# Altium footprint library connector.PcbLib: 28 footprints (part 1 of 2)
Each footprint in its own frame and in the unit in brackets; x right, y up, seen from the top. Pads: shape width x height; smd on the part's side, far side on the other; paste and mask are expansions set on the pad; w line width, h text height; cw(c..) or ccw(c..) is an arc to the next point about the centre after c.
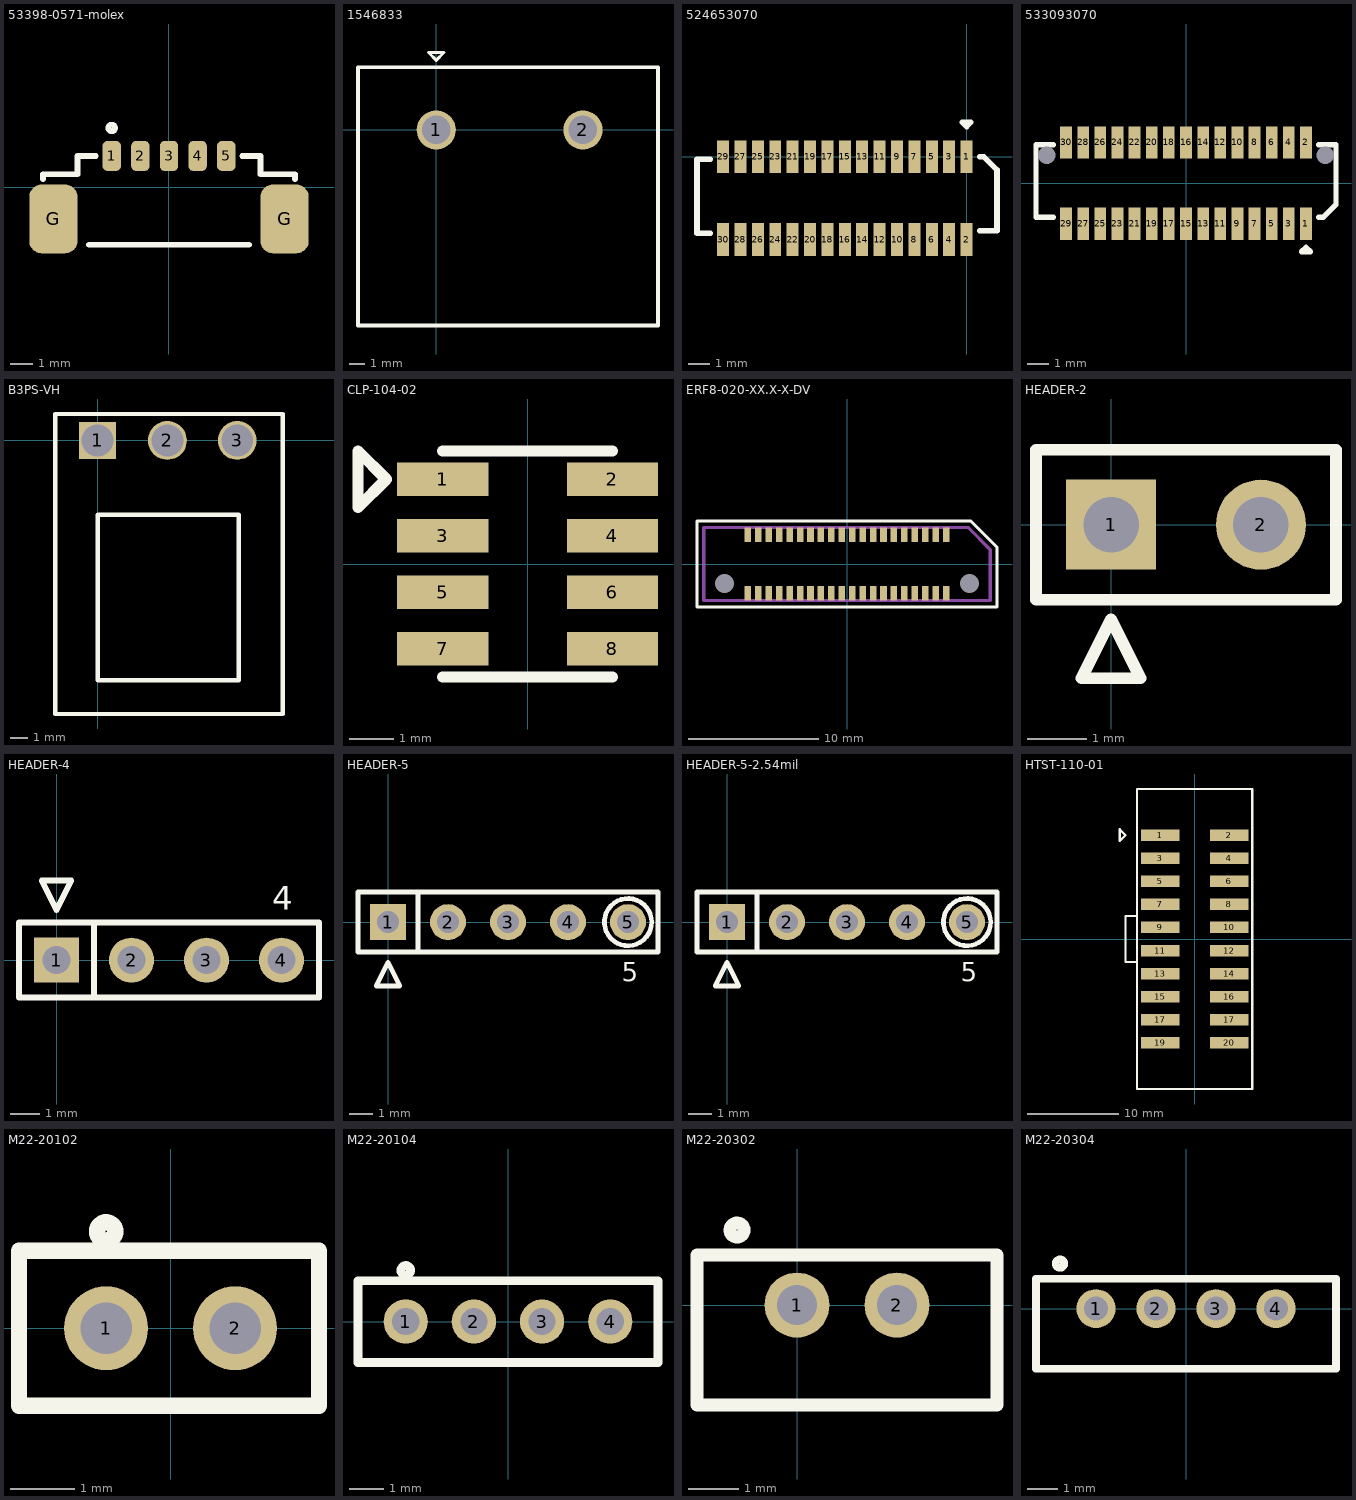
[diagram p0: the footprints below, top view; thin cyan lines are the x and y axes]

## 53398-0571-molex [mm] "1.27mmPitch molex"
pads (7):
  rrect50% 0.8x1.3 smd: 1(-2.5,1.375) 2(-1.25,1.375) 3(0,1.375) 4(1.25,1.375) 5(2.5,1.375)
  rrect50% 2.1x3 smd: G(-5.05,-1.375) G(5.05,-1.375)
Top Overlay:
  circle w0.254: c-2.5,2.6 r0.141
  lines w0.254: -5.5,0.375 -5.5,0.575 -4,0.575 -4,1.375 -3.2,1.375 ; -3.5,-2.5 3.5,-2.5 ; 3.2,1.375 4,1.375 4,0.575 5.5,0.575 5.5,0.375
3D body "533980571.stp": height 4.72, standoff -0.02, extent -5.7,-2.5 5.7,1.7

## 1546833 [mil] "1546833 moldex 2pin Terminal Block"
pads (2):
  round 100 hole 73: 1(0,0) 2(375,0)
Top Overlay:
  lines w7.87: -19.69,197.64 0,177.95 19.68,197.64 -19.69,197.64
  lines w10: -200,-500 -200,160 566.93,160 566.93,-500 -200,-500
3D body "c-1546833-2-d-3d.stp": height 685.04, standoff -192.91, extent -229.29,-489.61 559.29,160

## 524653070 [mm] "30pin Molex"
pads (30):
  rect 0.55x1.5 smd: 1(0,0) 2(0,-3.8) 3(-0.8,0) 4(-0.8,-3.8) 5(-1.6,0) 6(-1.6,-3.8) 7(-2.4,0) 8(-2.4,-3.8) 9(-3.2,0) 10(-3.2,-3.8) 11(-4,0) 12(-4,-3.8) 13(-4.8,0) 14(-4.8,-3.8) 15(-5.6,0) 16(-5.6,-3.8) 17(-6.4,0) 18(-6.4,-3.8) 19(-7.2,0) 20(-7.2,-3.8) 21(-8,0) 22(-8,-3.8) 23(-8.8,0) 24(-8.8,-3.8) 25(-9.6,0) 26(-9.6,-3.8) 27(-10.4,0) 28(-10.4,-3.8) 29(-11.2,0) 30(-11.2,-3.8)
Top Overlay:
  lines w0.254: -11.8,-3.5 -12.4,-3.5 -12.4,-0.1 -11.8,-0.1 ; 0.6,-3.4 1.4,-3.4 1.4,-0.6 0.8,0 0.6,0 ; -0.2,1.6 0,1.4 0.2,1.6 -0.2,1.6
3D body "533093070.stp": height 4.69, standoff 0, extent -12.5,-4.5 1.3,0.6

## 533093070 [mm] "30pin Molex"
pads (32):
  rect 0.55x1.5 smd: 1(5.6,-1.9) 2(5.6,1.9) 3(4.8,-1.9) 4(4.8,1.9) 5(4,-1.9) 6(4,1.9) 7(3.2,-1.9) 8(3.2,1.9) 9(2.4,-1.9) 10(2.4,1.9) 11(1.6,-1.9) 12(1.6,1.9) 13(0.8,-1.9) 14(0.8,1.9) 15(0,-1.9) 16(0,1.9) 17(-0.8,-1.9) 18(-0.8,1.9) 19(-1.6,-1.9) 20(-1.6,1.9) 21(-2.4,-1.9) 22(-2.4,1.9) 23(-3.2,-1.9) 24(-3.2,1.9) 25(-4,-1.9) 26(-4,1.9) 27(-4.8,-1.9) 28(-4.8,1.9) 29(-5.6,-1.9) 30(-5.6,1.9)
  round 0 hole 0.8: H(-6.5,1.3) H(6.5,1.3)
Top Overlay:
  lines w0.254: -6.2,-1.6 -7,-1.6 -7,1.8 -6.2,1.8 ; 6.2,-1.6 6.4,-1.6 7,-1 7,1.8 6.2,1.8 ; 5.6,-3 5.8,-3.2 5.4,-3.2 5.6,-3 ; 5.6,-3 5.6,-3
3D body "524653070.stp": height 3.53, standoff -0.53, extent -6.8,-2.1 6.8,2.1

## B3PS-VH [mm]
pads (3):
  rect 2.1x2.1 hole 1.8: 1(0,0)
  round 2.2 hole 1.8: 2(3.96,0) 3(7.92,0)
Top Overlay:
  lines w0.254: -2.4,-15.5 -2.4,-14.6 -2.4,1.5 10.5,1.5 10.5,-14.6 10.5,-15.5 0,-15.5 -2.4,-15.5 ; 0,-13.6 0,-4.2 8,-4.2 8,-13.6 6.8,-13.6 0,-13.6
3D body "B3PS-VH.STEP": height 8.5, standoff -3.6, extent -1.91,-14.97 9.91,0.5

## CLP-104-02 [mm] "1.27mm*1.27mm 8pin"
height 2.3
pads (8):
  rect 2.05x0.76 smd: 1(-1.905,1.905) 2(1.905,1.905) 3(-1.905,0.635) 4(1.905,0.635) 5(-1.905,-0.635) 6(1.905,-0.635) 7(-1.905,-1.905) 8(1.905,-1.905)
Top Overlay:
  lines w0.254: -1.905,-2.54 1.905,-2.54 ; -1.905,2.54 1.905,2.54 ; -3.81,1.27 -3.175,1.905 -3.81,2.54 -3.81,1.27
3D body "CLP_104_02_F_D_BE_TR.stp": height 2.26, standoff -0.03, extent -2.159,-2.756 2.159,2.756

## ERF8-020-XX.X-X-DV [mm]
pads (42):
  rect 0.5x1.1 smd mask+0.05: 1(7.6,2.25) 2(7.6,-2.25) 3(6.8,2.25) 4(6.8,-2.25) 5(6,2.25) 6(6,-2.25) 7(5.2,2.25) 8(5.2,-2.25) 9(4.4,2.25) 10(4.4,-2.25) 11(3.6,2.25) 12(3.6,-2.25) 13(2.8,2.25) 14(2.8,-2.25) 15(2,2.25) 16(2,-2.25) 17(1.2,2.25) 18(1.2,-2.25) 19(0.4,2.25) 20(0.4,-2.25) 21(-0.4,2.25) 22(-0.4,-2.25) 23(-1.2,2.25) 24(-1.2,-2.25) 25(-2,2.25) 26(-2,-2.25) 27(-2.8,2.25) 28(-2.8,-2.25) 29(-3.6,2.25) 30(-3.6,-2.25) 31(-4.4,2.25) 32(-4.4,-2.25) 33(-5.2,2.25) 34(-5.2,-2.25) 35(-6,2.25) 36(-6,-2.25) 37(-6.8,2.25) 38(-6.8,-2.25) 39(-7.6,2.25) 40(-7.6,-2.25)
  round 0 hole 1.45 unplated: MH1(9.4,-1.5) MH2(-9.4,-1.5)
Top Overlay:
  lines w0.25: -11.508,-3.3 -11.508,3.3 9.5,3.3 11.508,1.3 11.508,-3.3 -11.508,-3.3
Mechanical 1:
  lines w0.25: -11,-2.8 -11,2.8 9.3,2.8 11,1.1 11,-2.8 -11,-2.8
  text "J1" at -0.491,-0.502 h0.75
3D body "ERF8_020_05_0_L_DV_TR.stp": height 5.1, standoff -1.28, extent -11,-2.8 11,2.8

## HEADER-2 [mil]
pads (2):
  rect 60x60 hole 37: 1(0,0)
  round 60 hole 37: 2(100,0)
Top Overlay:
  lines w7.87: -50,-50 -50,50 150,50 150,-50 -50,-50 ; -19.69,-102.36 19.68,-102.36 0,-62.99 -19.69,-102.36
3D body "HDR1x2.STEP": height 330, standoff -150, extent -49.61,-51.18 150.39,48.82

## HEADER-4 [mil]
pads (4):
  rect 60x60 hole 37: 1(0,0)
  round 60 hole 37: 2(100,0) 3(200,0) 4(300,0)
Top Overlay:
  lines w7.87: 50,-50 50,50 ; -50,-50 -50,50 350,50 350,-50 -50,-50 ; -19.68,106.3 19.69,106.3 0,66.93 -19.68,106.3
  text "4" at 287.4,66.93 h31.5
3D body "HDR1x4.STEP": height 330, standoff -150, extent -50.46,-50.06 349.54,49.94

## HEADER-5 [mil]
pads (5):
  rect 60x60 hole 37: 1(0,0)
  round 60 hole 37: 2(100,0) 3(200,0) 4(300,0) 5(400,0)
Top Overlay:
  circle w7.87: c400,0 r39.37
  lines w7.87: 50,-50 50,50 ; -50,-50 -50,50 450,50 450,-50 -50,-50 ; -19.69,-106.3 0,-66.93 19.68,-106.3 -19.69,-106.3
  text "5" at 389.76,-98.43 h31.5
3D body "61300511121.stp": height 336.72, standoff -117.61, extent -49.99,-49.99 450.01,50.01

## HEADER-5-2.54mil [mil]
pads (5):
  rect 60x60 hole 37: 1(0,0)
  round 60 hole 37: 2(100,0) 3(200,0) 4(300,0) 5(400,0)
Top Overlay:
  circle w7.87: c400,0 r39.37
  lines w7.87: 50,-50 50,50 ; -50,-50 -50,50 450,50 450,-50 -50,-50 ; -19.69,-106.3 0,-66.93 19.68,-106.3 -19.69,-106.3
  text "5" at 389.76,-98.43 h31.5
3D body "2.54mm-5pin-male.stp": height 410, standoff -120, extent -50,-48 450,50

## HTST-110-01 [mm] "1.27mm*1.27mm 8pin"
height 8.89
pads (20):
  rect 4.24x1.27 smd: 1(-3.81,11.43) 2(3.81,11.43) 3(-3.81,8.89) 4(3.81,8.89) 5(-3.81,6.35) 6(3.81,6.35) 7(-3.81,3.81) 8(3.81,3.81) 9(-3.81,1.27) 10(3.81,1.27) 11(-3.81,-1.27) 12(3.81,-1.27) 13(-3.81,-3.81) 14(3.81,-3.81) 15(-3.81,-6.35) 16(3.81,-6.35) 17(-3.81,-8.89) 17(3.81,-8.89) 19(-3.81,-11.43) 20(3.81,-11.43)
Top Overlay:
  lines w0.254: -8.255,10.795 -8.255,12.065 -7.62,11.43 -8.255,10.795 ; -7.62,-2.54 -6.35,-2.54 -6.35,-1.27 -6.35,2.54 -7.62,2.54 -7.62,-2.54 ; -6.35,-16.51 -6.35,16.51 6.35,16.51 6.35,6.985 6.35,-9.525 6.35,-16.51 -6.35,-16.51
3D body "HTST-110-01-L-DV.stp": height 10.19, standoff 0.03, extent -5.588,-16.51 5.588,16.51

## M22-20102 [mm] "2.0mmPItch harwin"
pads (2):
  round 1.3 hole 0.8: 1(-1,0) 2(1,0)
Top Overlay:
  circle w0.254: c-1,1.5 r0.141
  lines w0.254: -2.35,-1.2 2.3,-1.2 2.3,1.2 -2.35,1.2 -2.35,-1.2
3D body "TMM-102-01-L-S.stp": height 4.7, standoff -3.51, extent -2,-0.99 2,0.991

## M22-20104 [mm] "2.0mmPItch harwin"
pads (4):
  round 1.3 hole 0.8: 1(-3,0) 2(-1,0) 3(1,0) 4(3,0)
Top Overlay:
  circle w0.254: c-3,1.5 r0.141
  lines w0.254: -4.4,-1.2 -4.4,1.2 4.4,1.2 4.4,-1.2 -4.4,-1.2
3D body "TMM-104-01-L-S.stp": height 4.7, standoff -3.51, extent -4,-0.99 4,0.991

## M22-20302 [mm] "2.0mmPItch right angle harwin"
pads (2):
  round 1.3 hole 0.8: 1(0,0) 2(2,0)
Top Overlay:
  circle w0.254: c-1.2,1.5 r0.141
  lines w0.254: -2,-2 4,-2 4,1 -2,1 -2,-2
3D body "TMM-102-01-F-S-RA.stp": height 2.01, standoff -3.02, extent -1,-5.799 3,0.424

## M22-20304 [mm] "2.0mmPItch right angle harwin"
pads (4):
  round 1.3 hole 0.8: 1(-3,0) 2(-1,0) 3(1,0) 4(3,0)
Top Overlay:
  circle w0.254: c-4.2,1.5 r0.141
  lines w0.254: -5,-2 -5,1 5,1 5,-2 -5,-2
3D body "TMM-104-01-L-S-RA.stp": height 1.99, standoff -3.04, extent -4,-5.95 4,0.273